# Altium footprint library BSPO.PcbLib: 178 footprints (part 11 of 12)
Each footprint in its own frame and in the unit in brackets; x right, y up, seen from the top. Pads: shape width x height; smd on the part's side, far side on the other; paste and mask are expansions set on the pad; w line width, h text height; cw(c..) or ccw(c..) is an arc to the next point about the centre after c.
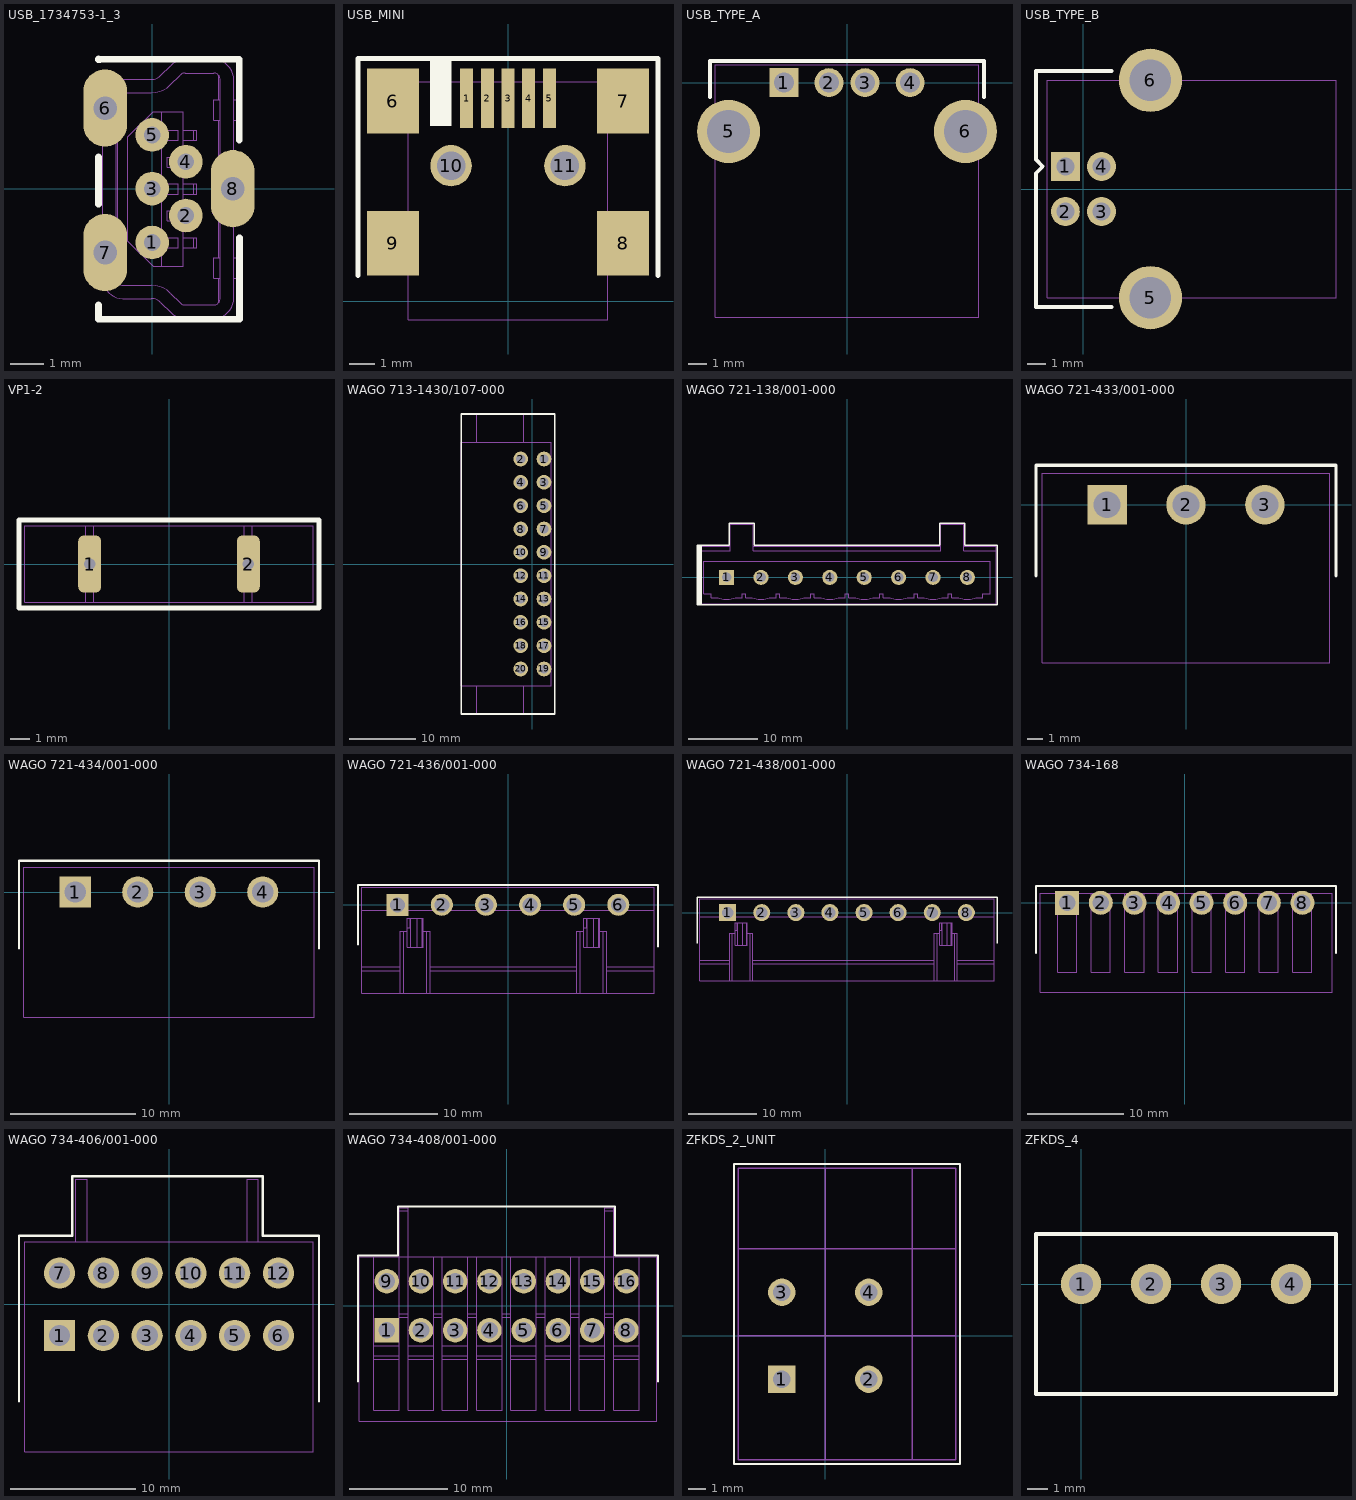
[diagram p10: the footprints below, top view; thin cyan lines are the x and y axes]

## USB_1734753-1_3 [mm]
pads (8):
  round 1 hole 0.5: 1(0,-1.6) 2(1,-0.8) 3(0,0) 4(1,0.8) 5(0,1.6)
  oval 1.3x2.3 hole 0.7: 6(-1.4,2.4) 7(-1.4,-1.9) 8(2.4,0)
Mid-Layer 2:
  lines w0.02: -1.35,-2.85 -1.15,-2.85 ; -1.35,-1.9 -1.15,-1.9 ; -1.35,-0.95 -1.15,-0.95 ; -1.35,1.35 -1.15,1.35 ; -1.35,2.4 -1.15,2.4 ; -1.35,3.45 -1.15,3.45 ; -1.25,-2 -1.25,-1.8 ; -1.25,2.3 -1.25,2.5 ; 2.15,-0.95 2.35,-0.95 ; 2.15,0.95 2.35,0.95 ; 2.25,-0.1 2.25,0.1 ; 2.15,0 2.35,0 2.15,0
Top Overlay:
  lines w0.2: -1.6,-3.46 -1.6,-3.89 2.6,-3.89 2.6,-1.46 ; -1.6,-0.46 -1.6,0.94 ; -1.6,3.84 -1.56,3.84 ; -1.6,3.86 2.59,3.85 2.59,1.44
Keep-Out Layer:
  lines w0.02: -1.9,-2.35 ccw(c-1.4,-2.35) -0.9,-2.35 -0.9,-1.45 ccw(c-1.4,-1.45) -1.9,-1.45 -1.9,-2.35 ; -1.9,1.85 ccw(c-1.4,1.85) -0.9,1.85 -0.9,2.95 ccw(c-1.4,2.95) -1.9,2.95 -1.9,1.85 ; 1.9,-0.45 ccw(c2.4,-0.45) 2.9,-0.45 2.9,0.45 ccw(c2.4,0.45) 1.9,0.45 1.9,-0.45
Mechanical 1:
  drawing of 616 lines, arcs and shapes, not listed

## USB_MINI [mm]
pads (11):
  rect 0.5x2.3 smd: 1(-1.6,7.85) 2(-0.8,7.85) 3(0,7.85) 4(0.8,7.85) 5(1.6,7.85)
  rect 2x2.5 smd: 6(-4.45,7.75) 7(4.45,7.75) 8(4.45,2.25) 9(-4.45,2.25)
  round 1.6 hole 1.1: 10(-2.2,5.25) 11(2.2,5.25)
Top Overlay:
  region: -3,9.4 -3,6.8 -2.2,6.8 -2.2,9.4
  lines w0.2: -5.8,1 -5.8,9.4 5.8,9.4 5.8,1
Mechanical 1:
  lines w0.02: -3.85,1.5 -4.95,1.5 -4.95,3 -3.85,3 ; -3.85,7 -4.95,7 -4.95,8.5 -3.85,8.5 ; 3.85,1.5 4.95,1.5 4.95,3 3.85,3 ; 3.85,7 4.95,7 4.95,8.5 3.85,8.5 ; -3.85,8.5 3.85,8.5 ; -3.85,8.5 -3.85,-0.7 3.85,-0.7 3.85,8.5

## USB_TYPE_A [mm]
pads (6):
  rect 1.6x1.6 hole 1.1: 1(-3.5,0)
  round 1.6 hole 1.1: 2(-1,0) 3(1,0) 4(3.5,0)
  round 3.5 hole 2.4: 5(-6.57,-2.71) 6(6.57,-2.71)
Top Overlay:
  lines w0.2: -7.6,-0.8 -7.6,1.2 7.6,1.2 7.6,-0.8
Mechanical 1:
  lines w0.02: -7.3,-13 7.3,-13 7.3,1 -7.3,1 -7.3,-13

## USB_TYPE_B [mm]
pads (6):
  rect 1.6x1.6 hole 1: 1(-1,1.25)
  round 1.6 hole 1: 2(-1,-1.25) 3(1,-1.25) 4(1,1.25)
  round 3.5 hole 2.3: 5(3.71,-6.02) 6(3.71,6.02)
Top Overlay:
  lines w0.2: 1.57,-6.54 -2.63,-6.54 -2.63,0.87 -2.25,1.25 -2.63,1.63 -2.63,6.54 1.57,6.54
Mechanical 1:
  lines w0.02: 2.91,-6.02 2.91,-6.92 4.51,-6.92 4.51,-6.02 ; 2.91,6.02 2.91,6.92 4.51,6.92 4.51,6.02 ; -2.01,-6.02 13.99,-6.02 13.99,6.02 -2.01,6.02 -2.01,-6.02

## VP1-2 [mm]
pads (2):
  rrect50% 1.2x3 hole 0.6: 1(-4.15,0) 2(4.15,0)
Top Overlay:
  lines w0.25: -7.85,-2.3 7.85,-2.3 7.85,2.3 -7.85,2.3 -7.85,-2.3
Keep-Out Layer:
  lines w0.2: -4.45,-0.7 ccw(c-4.15,-0.7) -3.85,-0.7 -3.85,0.7 ccw(c-4.15,0.7) -4.45,0.7 -4.45,-0.7 ; 3.85,-0.7 ccw(c4.15,-0.7) 4.45,-0.7 4.45,0.7 ccw(c4.15,0.7) 3.85,0.7 3.85,-0.7
Mechanical 1:
  lines w0.02: -4.35,-2 -4.35,2 ; -3.95,-2 -3.95,2 ; 3.95,-2 3.95,2 ; 4.35,-2 4.35,2 ; -7.55,-2 7.55,-2 7.55,2 -7.55,2 -7.55,-2

## WAGO 713-1430/107-000 [mm]
pads (20):
  round 2.2 hole 1.4: 1(1.75,15.75) 2(-1.75,15.75) 3(1.75,12.25) 4(-1.75,12.25) 5(1.75,8.75) 6(-1.75,8.75) 7(1.75,5.25) 8(-1.75,5.25) 9(1.75,1.75) 10(-1.75,1.75) 11(1.75,-1.75) 12(-1.75,-1.75) 13(1.75,-5.25) 14(-1.75,-5.25) 15(1.75,-8.75) 16(-1.75,-8.75) 17(1.75,-12.25) 18(-1.75,-12.25) 19(1.75,-15.75) 20(-1.75,-15.75)
Top Overlay:
  lines w0.25: 3.345,-22.5 -10.65,-22.5 -10.65,22.5 3.345,22.5 ; 3.35,-22.5 3.35,22.5
Mechanical 1:
  lines w0.05: -8.35,-18.275 -8.35,-22.5 -1.25,-22.5 -1.25,-18.275 ; -8.35,18.275 -8.35,22.5 -1.25,22.5 -1.25,18.275 ; -10.65,-18.275 2.85,-18.275 2.85,18.275 -10.65,18.275 -10.65,-18.275

## WAGO 721-138/001-000 [mm]
pads (8):
  rect 2.2x2.2 hole 1.4: 1(-17.5,0)
  round 2.2 hole 1.4: 2(-12.5,0) 3(-7.5,0) 4(-2.5,0) 5(2.5,0) 6(7.5,0) 7(12.5,0) 8(17.5,0)
Top Overlay:
  region: -21.8,-3.96 -21.1,-3.96 -21.1,4.64 -21.8,4.64
  lines w0.2: -21.8,-3.96 21.8,-3.96 21.8,4.64 17.1,4.64 17.1,7.84 13.5,7.84 13.5,4.64 -13.5,4.64 -13.5,7.84 -17.1,7.84 -17.1,4.64 -21.8,4.64 -21.8,-3.96
Mechanical 1:
  lines w0.001: -18.74,-2.949 -19.75,-2.949 -19.75,-2.349 -20.8,-2.349 -20.8,2.351 20.8,2.351 20.8,-2.349 19.75,-2.349 19.75,-2.949 18.74,-2.949 ; -17,4.551 -21.7,4.551 -21.7,3.851 ; -16.26,-2.949 -15.25,-2.949 -15.25,-2.349 -14.75,-2.349 -14.75,-2.949 -13.74,-2.949 ; -13.6,4.551 13.6,4.551 ; -11.26,-2.949 -10.25,-2.949 -10.25,-2.349 -9.75,-2.349 -9.75,-2.949 -8.74,-2.949 ; -6.26,-2.949 -5.25,-2.949 -5.25,-2.349 -4.75,-2.349 -4.75,-2.949 -3.74,-2.949 ; -1.26,-2.949 -0.25,-2.949 -0.25,-2.349 0.25,-2.349 0.25,-2.949 1.26,-2.949 ; 3.74,-2.949 4.75,-2.949 4.75,-2.349 5.25,-2.349 5.25,-2.949 6.26,-2.949 ; 8.74,-2.949 9.75,-2.949 9.75,-2.349 10.25,-2.349 10.25,-2.949 11.26,-2.949 ; 13.74,-2.949 14.75,-2.949 14.75,-2.349 15.25,-2.349 15.25,-2.949 16.26,-2.949 ; 17,4.551 21.7,4.551 21.7,3.851 ; -21.7,3.851 -21.7,-3.849 21.7,-3.849 21.7,3.851 ; -21.7,3.851 -17,3.851 -17,7.751 -13.6,7.751 -13.6,3.851 13.6,3.851 13.6,7.751 17,7.751 17,3.851 21.7,3.851
  lines w0.025: -18.74,-2.949 ccw(c-17.5,0.001) -16.265,-2.951 ; -13.74,-2.949 ccw(c-12.5,0.001) -11.265,-2.951 ; -8.74,-2.949 ccw(c-7.5,0.001) -6.265,-2.951 ; -3.74,-2.949 ccw(c-2.5,0.001) -1.265,-2.951 ; 1.26,-2.949 ccw(c2.5,0.001) 3.735,-2.951 ; 6.26,-2.949 ccw(c7.5,0.001) 8.735,-2.951 ; 11.26,-2.949 ccw(c12.5,0.001) 13.735,-2.951 ; 16.26,-2.949 ccw(c17.5,0.001) 18.735,-2.951

## WAGO 721-433/001-000 [mm]
pads (3):
  rect 2.5x2.5 hole 1.7: 1(-5,0)
  round 2.5 hole 1.7: 2(0,0) 3(5,0)
Top Overlay:
  lines w0.2: -9.5,-4.5 -9.5,2.5 9.5,2.5 9.5,-4.5
Mechanical 1:
  lines w0.02: -9.1,-10 9.1,-10 9.1,2 -9.1,2 -9.1,-10

## WAGO 721-434/001-000 [mm]
pads (4):
  rect 2.5x2.5 hole 1.7: 1(-7.5,0)
  round 2.5 hole 1.7: 2(-2.5,0) 3(2.5,0) 4(7.5,0)
Top Overlay:
  lines w0.2: -12,-4.5 -12,2.5 12,2.5 12,-4.5
Mechanical 1:
  lines w0.02: -11.6,-10 11.6,-10 11.6,2 -11.6,2 -11.6,-10

## WAGO 721-436/001-000 [mm]
pads (6):
  rect 2.5x2.5 hole 1.7: 1(-12.5,0)
  round 2.5 hole 1.7: 2(-7.5,0) 3(-2.5,0) 4(2.5,0) 5(7.5,0) 6(12.5,0)
Top Overlay:
  lines w0.2: -17,-4.5 -17,2.25 17,2.25 17,-4.75
Mechanical 1:
  lines w0.02: -12.201,-7.499 -16.601,-7.499 ; -12.201,-6.999 -16.601,-6.999 ; -11.401,-2.599 -11.101,-2.599 -11.101,-1.499 ; -11.004,-4.799 -11.004,-1.499 ; -10.301,-4.799 -10.301,-1.499 ; -9.701,-4.799 -9.701,-1.499 ; -8.801,-7.499 7.799,-7.499 ; -8.801,-6.999 7.799,-6.999 ; 8.599,-2.599 8.899,-2.599 8.899,-1.499 ; 8.996,-4.799 8.996,-1.499 ; 9.699,-4.799 9.699,-1.499 ; 10.299,-4.799 10.299,-1.499 ; 11.199,-7.499 16.599,-7.499 ; 11.199,-6.999 16.599,-6.999 ; -16.601,-7.499 -16.601,-9.999 -12.201,-9.999 ; -16.601,-7.499 -16.601,-6.999 ; -16.601,-6.999 -16.601,-0.599 ; -16.601,-0.599 16.599,-0.599 ; -16.601,-0.599 -16.601,2.001 16.599,2.001 16.599,-0.599 ; -12.201,-9.999 -12.201,-2.999 -11.801,-2.999 ; -12.201,-9.999 -11.801,-9.999 ; -11.801,-9.999 -11.801,-2.999 ; -11.801,-9.999 -9.201,-9.999 ; -11.801,-2.999 -11.401,-2.999 ; -11.401,-2.999 -11.401,-4.799 -9.601,-4.799 -9.601,-2.999 ; -11.401,-2.999 -11.401,-1.499 -9.601,-1.499 -9.601,-2.999 ; -9.601,-2.999 -9.201,-2.999 ; -9.201,-9.999 -9.201,-2.999 ; -9.201,-9.999 -8.801,-9.999 ; -9.201,-2.999 -8.801,-2.999 -8.801,-9.999 ; -8.801,-9.999 7.799,-9.999 ; 7.799,-9.999 7.799,-2.999 8.199,-2.999 ; 7.799,-9.999 8.199,-9.999 ; 8.199,-9.999 10.799,-9.999 ; 8.199,-9.999 8.199,-2.999 ; 8.199,-2.999 8.599,-2.999 ; 8.599,-2.999 8.599,-4.799 10.399,-4.799 10.399,-2.999 ; 8.599,-2.999 8.599,-1.499 10.399,-1.499 10.399,-2.999 ; 10.399,-2.999 10.799,-2.999 ; 10.799,-9.999 10.799,-2.999 ; 10.799,-9.999 11.199,-9.999 ; 10.799,-2.999 11.199,-2.999 11.199,-9.999 ; 11.199,-9.999 16.599,-9.999 16.599,-7.499 ; 16.599,-7.499 16.599,-6.999 ; 16.599,-6.999 16.599,-0.599

## WAGO 721-438/001-000 [mm]
pads (8):
  rect 2.5x2.5 hole 1.7: 1(-17.5,0)
  round 2.5 hole 1.7: 2(-12.5,0) 3(-7.5,0) 4(-2.5,0) 5(2.5,0) 6(7.5,0) 7(12.5,0) 8(17.5,0)
Top Overlay:
  lines w0.2: -22,-4.5 -22,2.25 22,2.25 22,-4.5
Mechanical 1:
  lines w0.001: -17.2,-7.5 -21.599,-7.5 ; -17.2,-7 -21.599,-7 ; -16.399,-2.6 -16.1,-2.6 -16.1,-1.5 ; -16.003,-4.8 -16.003,-1.5 ; -15.299,-4.8 -15.299,-1.5 ; -14.7,-4.8 -14.7,-1.5 ; -13.799,-7.5 12.801,-7.5 ; -13.799,-7 12.801,-7 ; 13.601,-2.6 13.901,-2.6 13.901,-1.5 ; 13.997,-4.8 13.997,-1.5 ; 14.7,-4.8 14.7,-1.5 ; 15.301,-4.8 15.301,-1.5 ; 16.201,-7.5 21.601,-7.5 ; 16.201,-7 21.601,-7 ; -21.599,-7.5 -21.599,-10 -17.2,-10 ; -21.599,-7.5 -21.599,-7 ; -21.599,-7 -21.599,-0.6 ; -21.599,-0.6 21.601,-0.6 ; -21.599,-0.6 -21.599,2 21.601,2 21.601,-0.6 ; -17.2,-10 -17.2,-3 -16.799,-3 ; -17.2,-10 -16.799,-10 ; -16.799,-10 -14.199,-10 ; -16.799,-10 -16.799,-3 ; -16.799,-3 -16.399,-3 ; -16.399,-3 -16.399,-4.8 -14.6,-4.8 -14.6,-3 ; -16.399,-3 -16.399,-1.5 -14.6,-1.5 -14.6,-3 ; -14.6,-3 -14.199,-3 ; -14.199,-10 -14.199,-3 ; -14.199,-10 -13.799,-10 ; -14.199,-3 -13.799,-3 -13.799,-10 ; -13.799,-10 12.801,-10 ; 12.801,-10 12.801,-3 13.2,-3 ; 12.801,-10 13.2,-10 ; 13.2,-10 15.8,-10 ; 13.2,-10 13.2,-3 ; 13.2,-3 13.601,-3 ; 13.601,-3 13.601,-4.8 15.401,-4.8 15.401,-3 ; 13.601,-3 13.601,-1.5 15.401,-1.5 15.401,-3 ; 15.401,-3 15.8,-3 ; 15.8,-10 15.8,-3 ; 15.8,-10 16.201,-10 ; 15.8,-3 16.201,-3 16.201,-10 ; 16.201,-10 21.601,-10 21.601,-7.5 ; 21.601,-7.5 21.601,-7 ; 21.601,-7 21.601,-0.6

## WAGO 734-168 [mm]
pads (8):
  rect 2.5x2.5 hole 1.7: 1(-12.25,0)
  round 2.5 hole 1.7: 2(-8.75,0) 3(-5.25,0) 4(-1.75,0) 5(1.75,0) 6(5.25,0) 7(8.75,0) 8(12.25,0)
Top Overlay:
  lines w0.2: -15.5,-5.25 -15.5,1.75 15.75,1.75 15.75,-5.25
Mechanical 1:
  lines w0.02: -13.25,1 -13.25,-7.25 -11.25,-7.25 -11.25,1 ; -9.75,1 -9.75,-7.25 -7.75,-7.25 -7.75,1 ; -6.25,1 -6.25,-7.25 -4.25,-7.25 -4.25,1 ; -2.75,1 -2.75,-7.25 -0.75,-7.25 -0.75,1 ; 0.75,1 0.75,-7.25 2.75,-7.25 2.75,1 ; 4.25,1 4.25,-7.25 6.25,-7.25 6.25,1 ; 7.75,1 7.75,-7.25 9.75,-7.25 9.75,1 ; 11.25,1 11.25,-7.25 13.25,-7.25 13.25,1 ; -15.05,-9.3 15.35,-9.3 15.35,1 -15.05,1 -15.05,-9.3

## WAGO 734-406/001-000 [mm]
pads (12):
  rect 2.5x2.5 hole 1.7: 1(-8.75,-2.5)
  round 2.5 hole 1.7: 2(-5.25,-2.5) 3(-1.75,-2.5) 4(1.75,-2.5) 5(5.25,-2.5) 6(8.75,-2.5) 7(-8.75,2.5) 8(-5.25,2.5) 9(-1.75,2.5) 10(1.75,2.5) 11(5.25,2.5) 12(8.75,2.5)
Top Overlay:
  lines w0.2: -12,-7.75 -12,5.5 -7.75,5.5 -7.75,10.25 7.5,10.25 7.5,5.5 12,5.5 12,-7.75
Mechanical 1:
  lines w0.02: -7.45,5 -7.45,10 -6.55,10 -6.55,5 ; 6.25,5 6.25,10 7.15,10 7.15,5 ; -11.55,-11.8 11.55,-11.8 11.55,5 -11.55,5 -11.55,-11.8

## WAGO 734-408/001-000 [mm]
pads (16):
  rect 2.5x2.5 hole 1.7: 1(-12.25,-2.5)
  round 2.5 hole 1.7: 2(-8.75,-2.5) 3(-5.25,-2.5) 4(-1.75,-2.5) 5(1.75,-2.5) 6(5.25,-2.5) 7(8.75,-2.5) 8(12.25,-2.5) 9(-12.25,2.5) 10(-8.75,2.5) 11(-5.25,2.5) 12(-1.75,2.5) 13(1.75,2.5) 14(5.25,2.5) 15(8.75,2.5) 16(12.25,2.5)
Top Overlay:
  lines w0.2: -15.18,-7.75 -15.17,5.12 -11.07,5.12 ; -11.07,5.13 -11.07,10.12 11.07,10.12 11.07,5.12 15.47,5.12 15.47,-7.75
Mechanical 1:
  lines w0.02: -13.55,-5.446 -10.95,-5.446 ; -13.55,-5.1 -10.95,-5.1 ; -13.55,-4.1 -10.95,-4.1 ; -13.55,5 -13.55,-10.65 -10.95,-10.65 -10.95,10 -10.05,10 -10.05,-10.65 -7.45,-10.65 -7.45,5 ; -10.95,-1.189 -10.05,-1.189 ; -10.95,-0.824 -10.05,-0.824 ; -10.95,9.707 -10.05,9.707 ; -10.05,-5.446 -7.45,-5.446 ; -10.05,-5.1 -7.45,-5.1 ; -10.05,-4.1 -7.45,-4.1 ; -7.45,-1.189 -6.55,-1.189 ; -7.45,-0.824 -6.55,-0.824 ; -6.55,-5.446 -3.95,-5.446 ; -6.55,-5.1 -3.95,-5.1 ; -6.55,-4.1 -3.95,-4.1 ; -6.55,5 -6.55,-10.65 -3.95,-10.65 -3.95,5 ; -3.95,-1.189 -3.05,-1.189 ; -3.95,-0.824 -3.05,-0.824 ; -3.05,-5.446 -0.45,-5.446 ; -3.05,-5.1 -0.45,-5.1 ; -3.05,-4.1 -0.45,-4.1 ; -3.05,5 -3.05,-10.65 -0.45,-10.65 -0.45,5 ; -0.45,-1.189 0.45,-1.189 ; -0.45,-0.824 0.45,-0.824 ; 0.45,-5.446 3.05,-5.446 ; 0.45,-5.1 3.05,-5.1 ; 0.45,-4.1 3.05,-4.1 ; 0.45,5 0.45,-10.65 3.05,-10.65 3.05,5 ; 3.05,-1.189 3.95,-1.189 ; 3.05,-0.824 3.95,-0.824 ; 3.95,-5.446 6.55,-5.446 ; 3.95,-5.1 6.55,-5.1 ; 3.95,-4.1 6.55,-4.1 ; 3.95,5 3.95,-10.65 6.55,-10.65 6.55,5 ; 6.55,-1.189 7.45,-1.189 ; 6.55,-0.824 7.45,-0.824 ; 7.45,-5.446 10.05,-5.446 ; 7.45,-5.1 10.05,-5.1 ; 7.45,-4.1 10.05,-4.1 ; 7.45,5 7.45,-10.65 10.05,-10.65 10.05,10 10.95,10 10.95,-10.65 13.55,-10.65 13.55,5 ; 10.05,-1.189 10.95,-1.189 ; 10.05,-0.824 10.95,-0.824 ; 10.05,9.707 10.95,9.707 ; 10.95,-5.446 13.55,-5.446 ; 10.95,-5.1 13.55,-5.1 ; 10.95,-4.1 13.55,-4.1 ; -15.05,-11.8 15.35,-11.8 15.35,5 -15.05,5 -15.05,-11.8

## ZFKDS_2_UNIT [mm]
pads (4):
  rect 1.6x1.6 hole 1: 1(-2.54,-2.54)
  round 1.6 hole 1: 2(2.54,-2.54) 3(-2.54,2.54) 4(2.54,2.54)
Top Overlay:
  lines w0.1: -5.334,-7.493 7.874,-7.493 7.874,10.033 -5.334,10.033 -5.334,-7.493
Mechanical 1:
  lines w0.1: -5.08,0 7.62,0 ; -5.08,5.08 7.62,5.08 ; 0,-7.239 0,9.779 ; 5.08,-7.239 5.08,9.779 ; -5.08,-7.239 7.62,-7.239 7.62,9.779 -5.08,9.779 -5.08,-7.239

## ZFKDS_4 [mm]
pads (4):
  round 2 hole 1.2: 1(0,0) 2(3.5,0) 3(7,0) 4(10.5,0)
Top Overlay:
  lines w0.2: -2.25,-5.5 12.75,-5.5 12.75,2.5 -2.25,2.5 -2.25,-5.5